# Altium schematic symbol library NXE2S0505MC.Schlib: 1 symbol
Pins are listed as number, name and electrical type; pins without a type are passive.

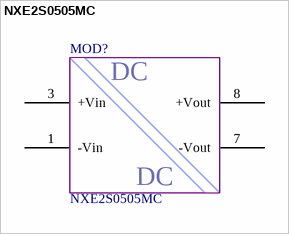
[diagram p0: symbol NXE2S0505MC]

## NXE2S0505MC
designator MOD?
Surface  mount DC/DC converters 5V/5V 0.4A
pins: 1 -Vin, 3 +Vin, 7 -Vout, 8 +Vout
text: DC